# Altium footprint library DF40HC4040DS04V70.PcbLib: 1 footprints
Each footprint in its own frame and in the unit in brackets; x right, y up, seen from the top. Pads: shape width x height; smd on the part's side, far side on the other; paste and mask are expansions set on the pad; w line width, h text height; cw(c..) or ccw(c..) is an arc to the next point about the centre after c.
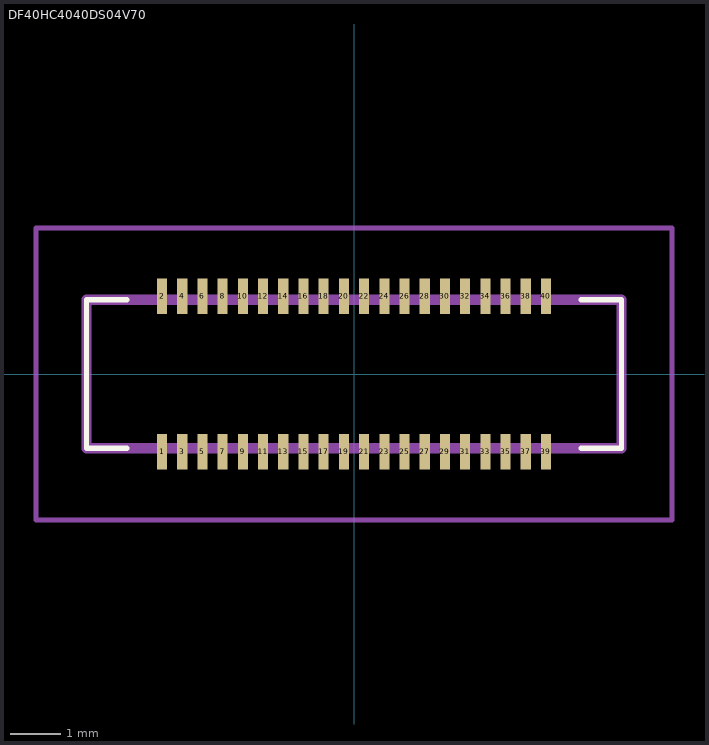
[diagram p0: the footprint, top view; thin cyan lines are the x and y axes]

## DF40HC4040DS04V70 [mm]
pads (40):
  rect 0.2x0.7 smd: 1(-3.8,-1.54) 2(-3.8,1.54) 3(-3.4,-1.54) 4(-3.4,1.54) 5(-3,-1.54) 6(-3,1.54) 7(-2.6,-1.54) 8(-2.6,1.54) 9(-2.2,-1.54) 10(-2.2,1.54) 11(-1.8,-1.54) 12(-1.8,1.54) 13(-1.4,-1.54) 14(-1.4,1.54) 15(-1,-1.54) 16(-1,1.54) 17(-0.6,-1.54) 18(-0.6,1.54) 19(-0.2,-1.54) 20(-0.2,1.54) 21(0.2,-1.54) 22(0.2,1.54) 23(0.6,-1.54) 24(0.6,1.54) 25(1,-1.54) 26(1,1.54) 27(1.4,-1.54) 28(1.4,1.54) 29(1.8,-1.54) 30(1.8,1.54) 31(2.2,-1.54) 32(2.2,1.54) 33(2.6,-1.54) 34(2.6,1.54) 35(3,-1.54) 36(3,1.54) 37(3.4,-1.54) 38(3.4,1.54) 39(3.8,-1.54) 40(3.8,1.54)
Top Overlay:
  lines w0.1: -4.5,-1.47 -5.3,-1.47 ; -4.5,1.47 -5.3,1.47 -5.3,-1.47 ; 4.5,1.47 5.3,1.47 5.3,-1.47 4.5,-1.47 ; -5.3,-1.47 -5.3,-1.47 ; 4.5,-1.47 4.5,-1.47
Mechanical 15:
  lines w0.2: -5.3,-1.47 5.3,-1.47 5.3,1.47 -5.3,1.47 -5.3,-1.47
Mechanical 20:
  lines w0.1: -6.3,-2.89 6.3,-2.89 6.3,2.89 -6.3,2.89 -6.3,-2.89